# Altium schematic symbol library CPU.SchLib: 6 symbols
Pins are listed as number, name and electrical type; pins without a type are passive.

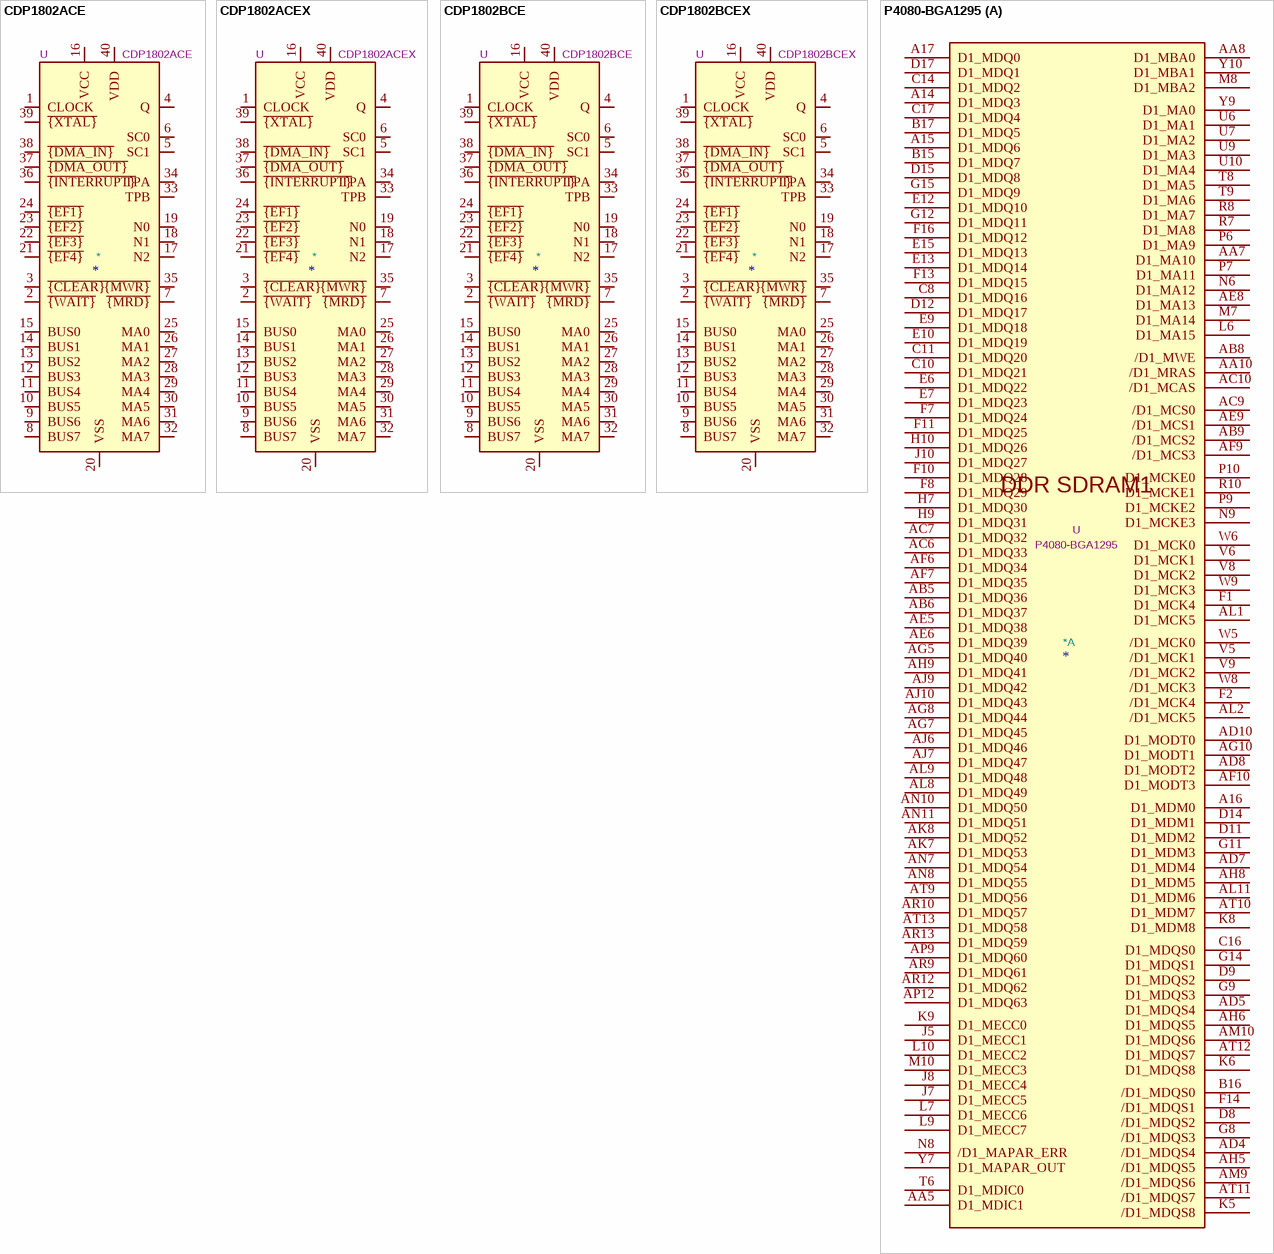
[diagram p0: symbols CDP1802ACE to P4080-BGA1295]

## CDP1802ACE
designator *  value CDP1802ACE  Reference: U
ki_keywords: CPU Processor; ki_description: 8-bit, General Purpose, 5V, 3.2 MHz, DIP-40; ki_fp_filters: DIP*W15.24mm*; Footprint: Package_DIP:DIP-40_W15.24mm; Datasheet: http://www.cosmacelf.com/publications/data-sheets/cdp1802.pdf
pins: 1 CLOCK, 2 ~{{WAIT}}, 3 ~{{CLEAR}}, 4 Q, 5 SC1, 6 SC0, 7 ~{{MRD}}, 8 BUS7, 9 BUS6, 10 BUS5, 11 BUS4, 12 BUS3, 13 BUS2, 14 BUS1, 15 BUS0, 16 VCC, 17 N2, 18 N1, 19 N0, 20 VSS, 21 ~{{EF4}}, 22 ~{{EF3}}, 23 ~{{EF2}}, 24 ~{{EF1}}, 25 MA0, 26 MA1, 27 MA2, 28 MA3, 29 MA4, 30 MA5, 31 MA6, 32 MA7, 33 TPB, 34 TPA, 35 ~{{MWR}}, 36 ~{{INTERRUPT}}, 37 ~{{DMA_OUT}}, 38 ~{{DMA_IN}}, 39 ~{{XTAL}}, 40 VDD

## CDP1802ACEX
designator *  value CDP1802ACEX  Reference: U
ki_keywords: CPU Processor; ki_description: 8-bit, General Purpose, 5V, 3.2 MHz, Burned-In, DIP-40; ki_fp_filters: DIP*W15.24mm*; Footprint: Package_DIP:DIP-40_W15.24mm; Datasheet: http://www.cosmacelf.com/publications/data-sheets/cdp1802.pdf
pins: 1 CLOCK, 2 ~{{WAIT}}, 3 ~{{CLEAR}}, 4 Q, 5 SC1, 6 SC0, 7 ~{{MRD}}, 8 BUS7, 9 BUS6, 10 BUS5, 11 BUS4, 12 BUS3, 13 BUS2, 14 BUS1, 15 BUS0, 16 VCC, 17 N2, 18 N1, 19 N0, 20 VSS, 21 ~{{EF4}}, 22 ~{{EF3}}, 23 ~{{EF2}}, 24 ~{{EF1}}, 25 MA0, 26 MA1, 27 MA2, 28 MA3, 29 MA4, 30 MA5, 31 MA6, 32 MA7, 33 TPB, 34 TPA, 35 ~{{MWR}}, 36 ~{{INTERRUPT}}, 37 ~{{DMA_OUT}}, 38 ~{{DMA_IN}}, 39 ~{{XTAL}}, 40 VDD

## CDP1802BCE
designator *  value CDP1802BCE  Reference: U
ki_keywords: CPU Processor; ki_description: 8-bit, General Purpose, 5V, 5 MHz, DIP-40; ki_fp_filters: DIP*W15.24mm*; Footprint: Package_DIP:DIP-40_W15.24mm; Datasheet: http://www.cosmacelf.com/publications/data-sheets/cdp1802.pdf
pins: 1 CLOCK, 2 ~{{WAIT}}, 3 ~{{CLEAR}}, 4 Q, 5 SC1, 6 SC0, 7 ~{{MRD}}, 8 BUS7, 9 BUS6, 10 BUS5, 11 BUS4, 12 BUS3, 13 BUS2, 14 BUS1, 15 BUS0, 16 VCC, 17 N2, 18 N1, 19 N0, 20 VSS, 21 ~{{EF4}}, 22 ~{{EF3}}, 23 ~{{EF2}}, 24 ~{{EF1}}, 25 MA0, 26 MA1, 27 MA2, 28 MA3, 29 MA4, 30 MA5, 31 MA6, 32 MA7, 33 TPB, 34 TPA, 35 ~{{MWR}}, 36 ~{{INTERRUPT}}, 37 ~{{DMA_OUT}}, 38 ~{{DMA_IN}}, 39 ~{{XTAL}}, 40 VDD

## CDP1802BCEX
designator *  value CDP1802BCEX  Reference: U
ki_keywords: CPU Processor; ki_description: 8-bit, General Purpose, 5V, 5 MHz, Burned-In, DIP-40; ki_fp_filters: DIP*W15.24mm*; Footprint: Package_DIP:DIP-40_W15.24mm; Datasheet: http://www.cosmacelf.com/publications/data-sheets/cdp1802.pdf
pins: 1 CLOCK, 2 ~{{WAIT}}, 3 ~{{CLEAR}}, 4 Q, 5 SC1, 6 SC0, 7 ~{{MRD}}, 8 BUS7, 9 BUS6, 10 BUS5, 11 BUS4, 12 BUS3, 13 BUS2, 14 BUS1, 15 BUS0, 16 VCC, 17 N2, 18 N1, 19 N0, 20 VSS, 21 ~{{EF4}}, 22 ~{{EF3}}, 23 ~{{EF2}}, 24 ~{{EF1}}, 25 MA0, 26 MA1, 27 MA2, 28 MA3, 29 MA4, 30 MA5, 31 MA6, 32 MA7, 33 TPB, 34 TPA, 35 ~{{MWR}}, 36 ~{{INTERRUPT}}, 37 ~{{DMA_OUT}}, 38 ~{{DMA_IN}}, 39 ~{{XTAL}}, 40 VDD

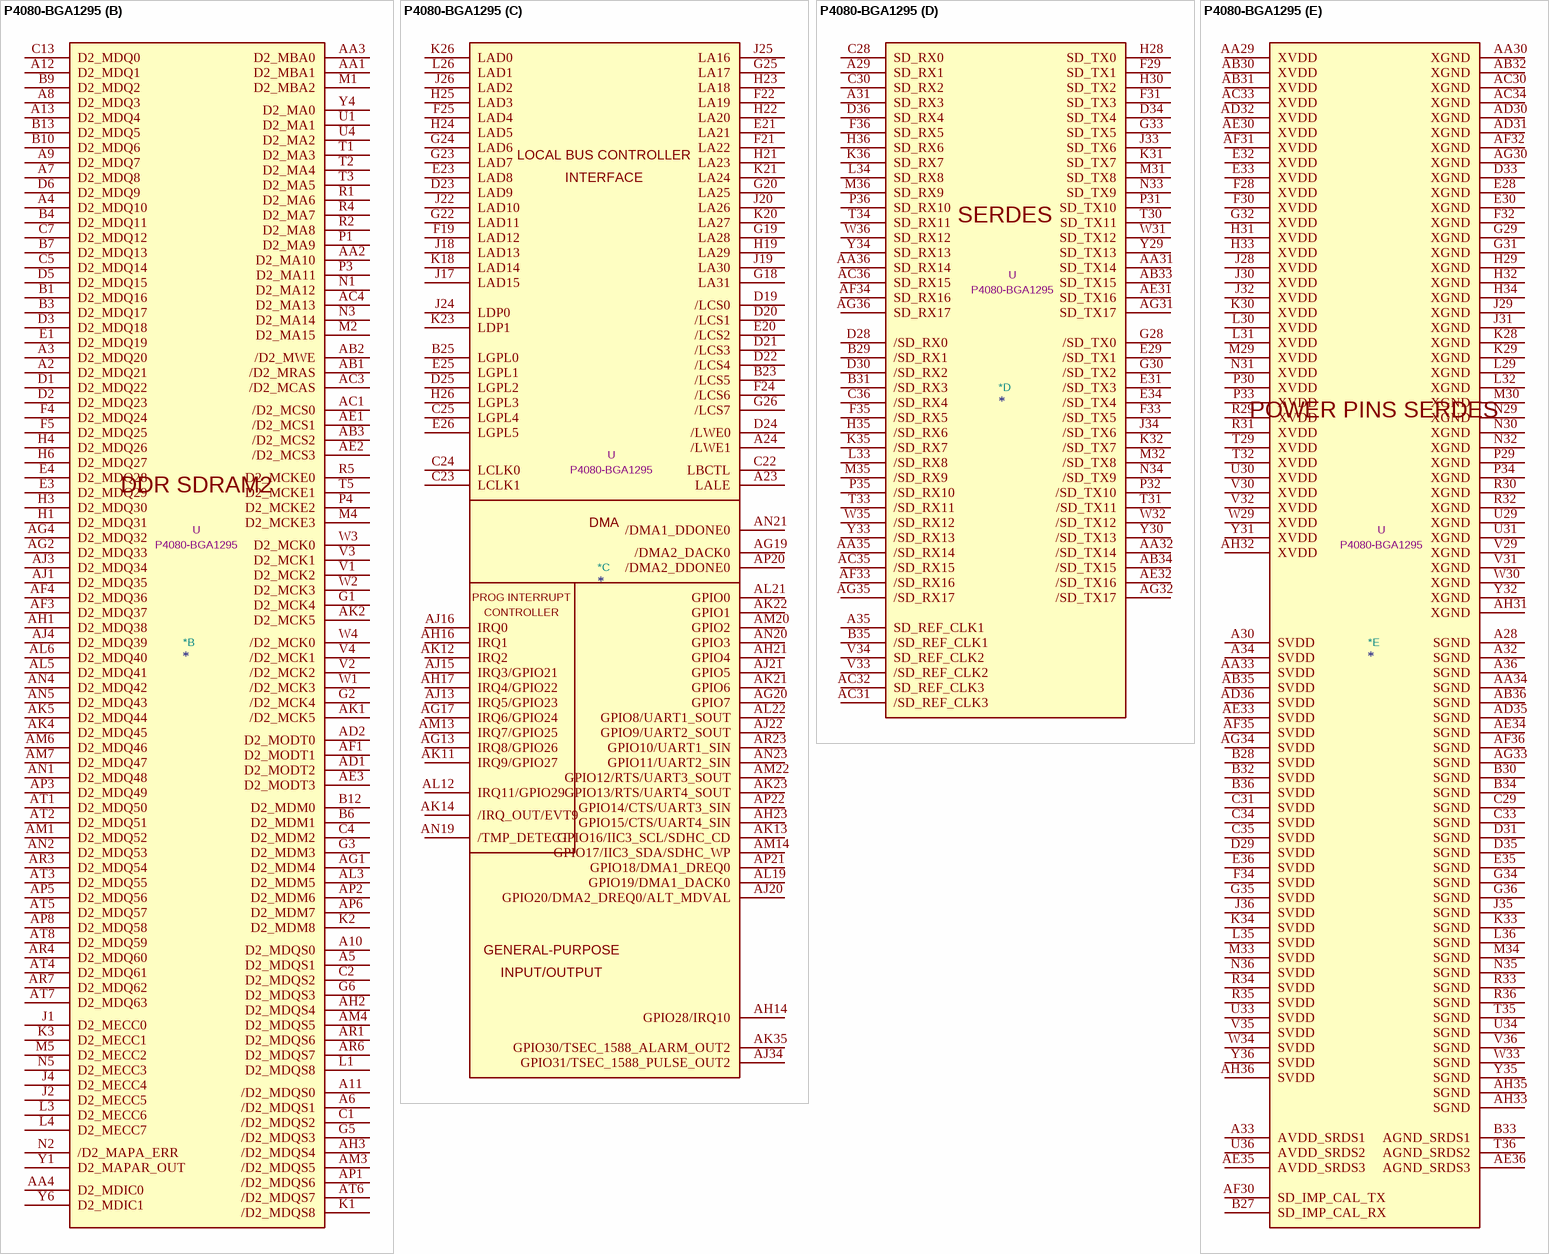
[diagram p1: symbol P4080-BGA1295]

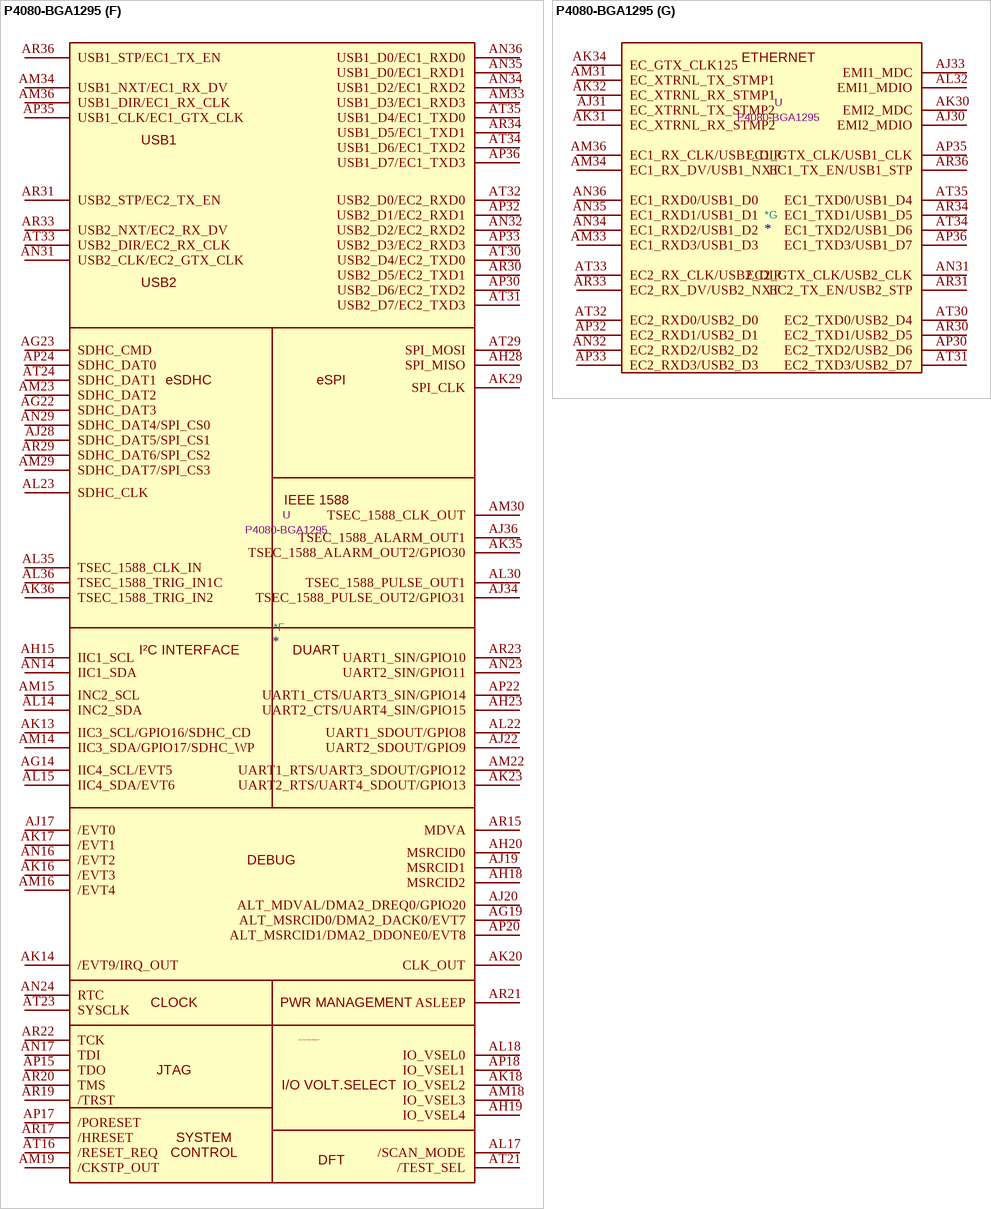
[diagram p2: symbol P4080-BGA1295]

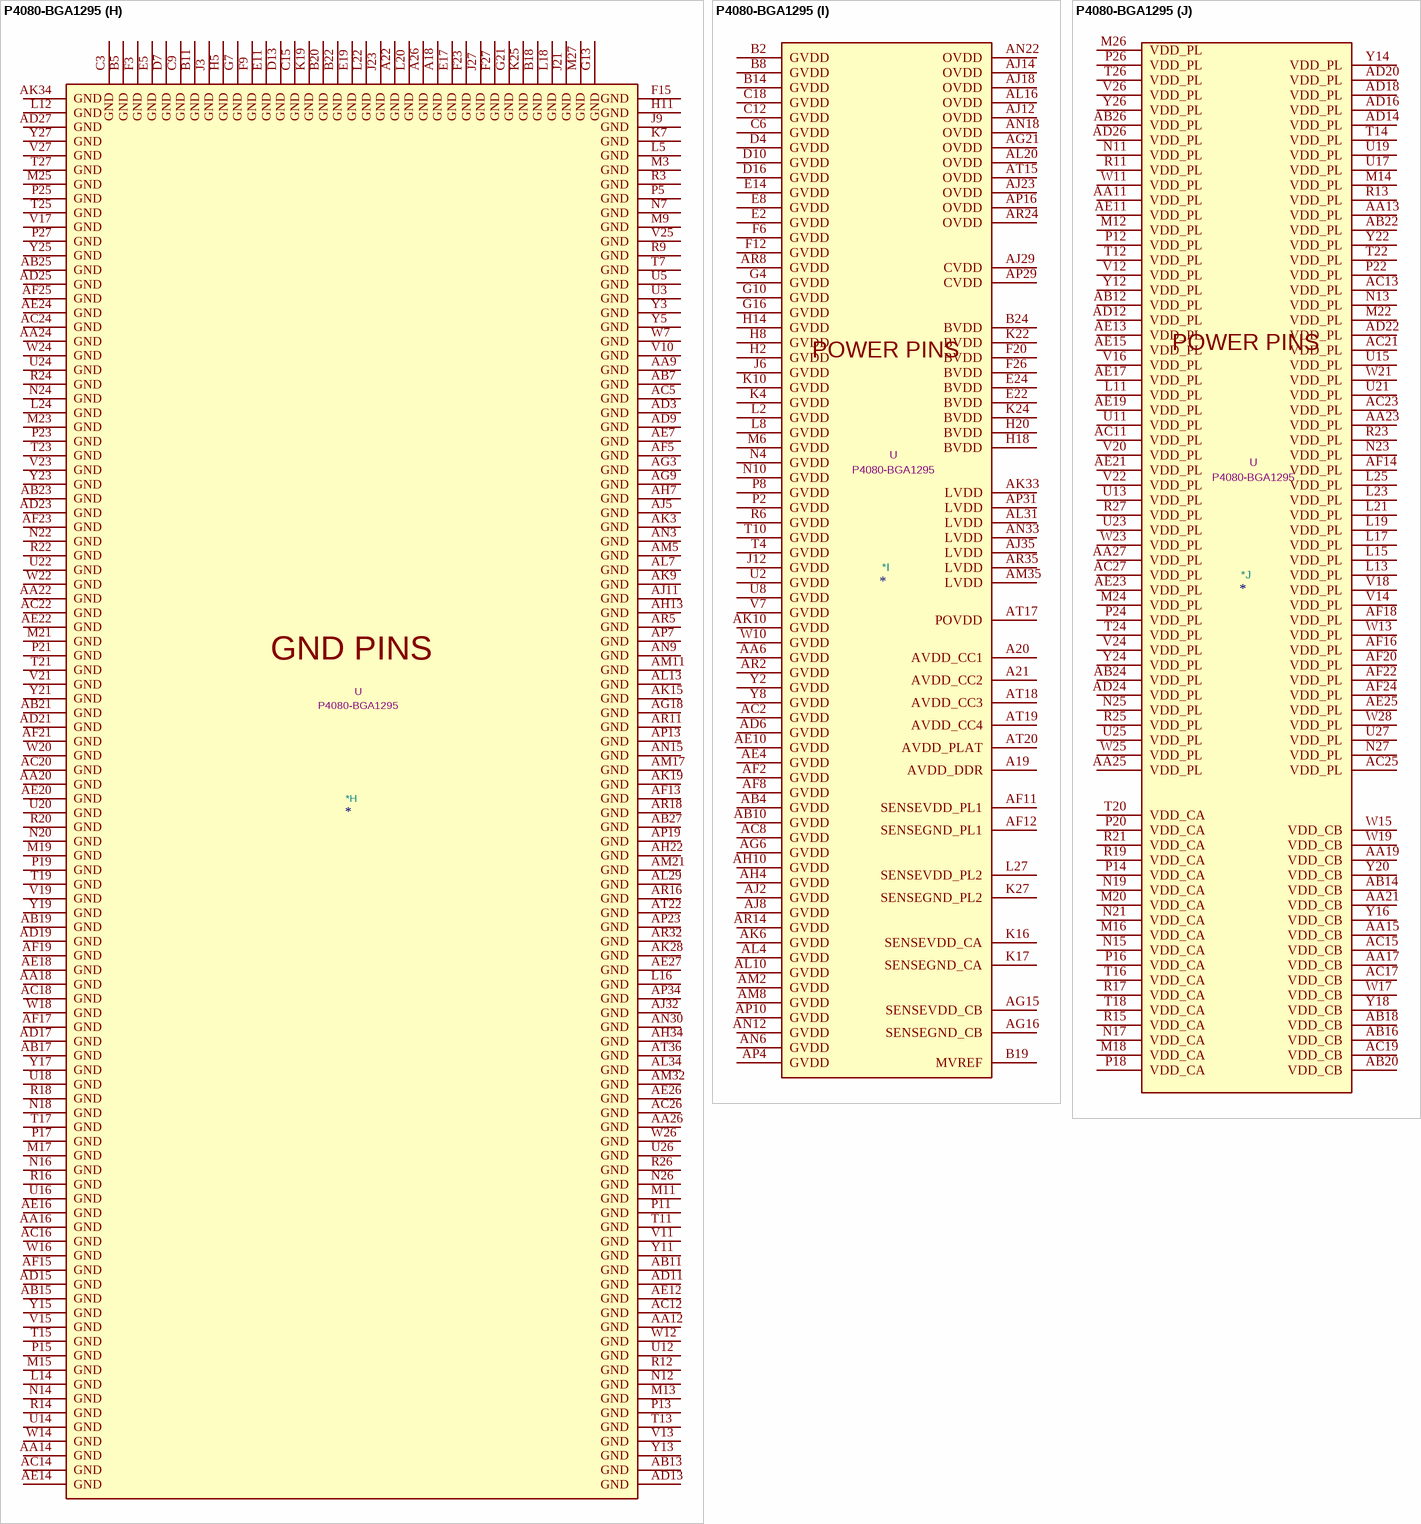
[diagram p3: symbol P4080-BGA1295]

## P4080-BGA1295
designator *  value P4080-BGA1295  Reference: U
ki_keywords: Communications Processor; ki_description: QorIQ P4080 Communications Processor, BGA-1295; Datasheet: https://www.nxp.com/jp/products/microcontrollers-and-processors/power-architecture-processors/qoriq-platforms/p-series/qoriq-p4080-p4040-p4081-multicore-communications-processors:P4080?&tab=Documentation_Tab&linkline=Data-Sheet
part A pins: A14 D1_MDQ3, A15 D1_MDQ6, A16 D1_MDM0, A17 D1_MDQ0, AA5 D1_MDIC1, AA7 D1_MA10, AA8 D1_MBA0, AA10 /D1_MRAS, AB5 D1_MDQ36, AB6 D1_MDQ37, AB8 /D1_MWE, AB9 /D1_MCS2, AC6 D1_MDQ33, AC7 D1_MDQ32, AC9 /D1_MCS0, AC10 /D1_MCAS, AD4 /D1_MDQS4, AD5 D1_MDQS4, AD7 D1_MDM4, AD8 D1_MODT2, AD10 D1_MODT0, AE5 D1_MDQ38, AE6 D1_MDQ39, AE8 D1_MA13, AE9 /D1_MCS1, AF6 D1_MDQ34, AF7 D1_MDQ35, AF9 /D1_MCS3, AF10 D1_MODT3, AG5 D1_MDQ40, AG7 D1_MDQ45, AG8 D1_MDQ44, AG10 D1_MODT1, AH5 /D1_MDQS5, AH6 D1_MDQS5, AH8 D1_MDM5, AH9 D1_MDQ41, AJ6 D1_MDQ46, AJ7 D1_MDQ47, AJ9 D1_MDQ42, AJ10 D1_MDQ43, AK7 D1_MDQ53, AK8 D1_MDQ52, AL1 D1_MCK5, AL2 /D1_MCK5, AL8 D1_MDQ49, AL9 D1_MDQ48, AL11 D1_MDM6, AM9 /D1_MDQS6, AM10 D1_MDQS6, AN7 D1_MDQ54, AN8 D1_MDQ55, AN10 D1_MDQ50, AN11 D1_MDQ51, AP9 D1_MDQ60, AP12 D1_MDQ63, AR9 D1_MDQ61, AR10 D1_MDQ57, AR12 D1_MDQ62, AR13 D1_MDQ59, AT9 D1_MDQ56, AT10 D1_MDM7, AT11 /D1_MDQS7, AT12 D1_MDQS7, AT13 D1_MDQ58, B15 D1_MDQ7, B16 /D1_MDQS0, B17 D1_MDQ5, C8 D1_MDQ16, C10 D1_MDQ21, C11 D1_MDQ20, C14 D1_MDQ2, C16 D1_MDQS0, C17 D1_MDQ4, D8 /D1_MDQS2, D9 D1_MDQS2, D11 D1_MDM2, D12 D1_MDQ17, D14 D1_MDM1, D15 D1_MDQ8, D17 D1_MDQ1, E6 D1_MDQ22, E7 D1_MDQ23, E9 D1_MDQ18, E10 D1_MDQ19, E12 D1_MDQ10, E13 D1_MDQ14, E15 D1_MDQ13, F1 D1_MCK4, F2 /D1_MCK4, F7 D1_MDQ24, F8 D1_MDQ29, F10 D1_MDQ28, F11 D1_MDQ25, F13 D1_MDQ15, F14 /D1_MDQS1, F16 D1_MDQ12, G8 /D1_MDQS3, G9 D1_MDQS3, G11 D1_MDM3, G12 D1_MDQ11, G14 D1_MDQS1, G15 D1_MDQ9, H7 D1_MDQ30, H9 D1_MDQ31, H10 D1_MDQ26, J5 D1_MECC1, J7 D1_MECC5, J8 D1_MECC4, J10 D1_MDQ27, K5 /D1_MDQS8, K6 D1_MDQS8, K8 D1_MDM8, K9 D1_MECC0, L6 D1_MA15, L7 D1_MECC6, L9 D1_MECC7, L10 D1_MECC2, M7 D1_MA14, M8 D1_MBA2, M10 D1_MECC3, N6 D1_MA12, N8 /D1_MAPAR_ERR, N9 D1_MCKE3, P6 D1_MA9, P7 D1_MA11, P9 D1_MCKE2, P10 D1_MCKE0, R7 D1_MA8, R8 D1_MA7, R10 D1_MCKE1, T6 D1_MDIC0, T8 D1_MA5, T9 D1_MA6, U6 D1_MA1, U7 D1_MA2, U9 D1_MA3, U10 D1_MA4, V5 /D1_MCK1, V6 D1_MCK1, V8 D1_MCK2, V9 /D1_MCK2, W5 /D1_MCK0, W6 D1_MCK0, W8 /D1_MCK3, W9 D1_MCK3, Y7 D1_MAPAR_OUT, Y9 D1_MA0, Y10 D1_MBA1
part B pins: A2 D2_MDQ21, A3 D2_MDQ20, A4 D2_MDQ10, A5 D2_MDQS1, A6 /D2_MDQS1, A7 D2_MDQ8, A8 D2_MDQ3, A9 D2_MDQ7, A10 D2_MDQS0, A11 /D2_MDQS0, A12 D2_MDQ1, A13 D2_MDQ4, AA1 D2_MBA1, AA2 D2_MA10, AA3 D2_MBA0, AA4 D2_MDIC0, AB1 /D2_MRAS, AB2 /D2_MWE, AB3 /D2_MCS2, AC1 /D2_MCS0, AC3 /D2_MCAS, AC4 D2_MA13, AD1 D2_MODT2, AD2 D2_MODT0, AE1 /D2_MCS1, AE2 /D2_MCS3, AE3 D2_MODT3, AF1 D2_MODT1, AF3 D2_MDQ37, AF4 D2_MDQ36, AG1 D2_MDM4, AG2 D2_MDQ33, AG4 D2_MDQ32, AH1 D2_MDQ38, AH2 D2_MDQS4, AH3 /D2_MDQS4, AJ1 D2_MDQ35, AJ3 D2_MDQ34, AJ4 D2_MDQ39, AK1 /D2_MCK5, AK2 D2_MCK5, AK4 D2_MDQ45, AK5 D2_MDQ44, AL3 D2_MDM5, AL5 D2_MDQ41, AL6 D2_MDQ40, AM1 D2_MDQ52, AM3 /D2_MDQS5, AM4 D2_MDQS5, AM6 D2_MDQ46, AM7 D2_MDQ47, AN1 D2_MDQ48, AN2 D2_MDQ53, AN4 D2_MDQ42, AN5 D2_MDQ43, AP1 /D2_MDQS6, AP2 D2_MDM6, AP3 D2_MDQ49, AP5 D2_MDQ56, AP6 D2_MDM7, AP8 D2_MDQ58, AR1 D2_MDQS6, AR3 D2_MDQ54, AR4 D2_MDQ60, AR6 D2_MDQS7, AR7 D2_MDQ62, AT1 D2_MDQ50, AT2 D2_MDQ51, AT3 D2_MDQ55, AT4 D2_MDQ61, AT5 D2_MDQ57, AT6 /D2_MDQS7, AT7 D2_MDQ63, AT8 D2_MDQ59, B1 D2_MDQ16, B3 D2_MDQ17, B4 D2_MDQ11, B6 D2_MDM1, B7 D2_MDQ13, B9 D2_MDQ2, B10 D2_MDQ6, B12 D2_MDM0, B13 D2_MDQ5, C1 /D2_MDQS2, C2 D2_MDQS2, C4 D2_MDM2, C5 D2_MDQ14, C7 D2_MDQ12, C13 D2_MDQ0, D1 D2_MDQ22, D2 D2_MDQ23, D3 D2_MDQ18, D5 D2_MDQ15, D6 D2_MDQ9, E1 D2_MDQ19, E3 D2_MDQ29, E4 D2_MDQ28, F4 D2_MDQ24, F5 D2_MDQ25, G1 D2_MCK4, G2 /D2_MCK4, G3 D2_MDM3, G5 /D2_MDQS3, G6 D2_MDQS3, H1 D2_MDQ31, H3 D2_MDQ30, H4 D2_MDQ26, H6 D2_MDQ27, J1 D2_MECC0, J2 D2_MECC5, J4 D2_MECC4, K1 /D2_MDQS8, K2 D2_MDM8, K3 D2_MECC1, L1 D2_MDQS8, L3 D2_MECC6, L4 D2_MECC7, M1 D2_MBA2, M2 D2_MA15, M4 D2_MCKE3, M5 D2_MECC2, N1 D2_MA12, N2 /D2_MAPA_ERR, N3 D2_MA14, N5 D2_MECC3, P1 D2_MA9, P3 D2_MA11, P4 D2_MCKE2, R1 D2_MA6, R2 D2_MA8, R4 D2_MA7, R5 D2_MCKE0, T1 D2_MA3, T2 D2_MA4, T3 D2_MA5, T5 D2_MCKE1, U1 D2_MA1, U4 D2_MA2, V1 D2_MCK2, V2 /D2_MCK2, V3 D2_MCK1, V4 /D2_MCK1, W1 /D2_MCK3, W2 D2_MCK3, W3 D2_MCK0, W4 /D2_MCK0, Y1 D2_MAPAR_OUT, Y4 D2_MA0, Y6 D2_MDIC1
part C pins: A23 LALE, A24 /LWE1, AG13 IRQ8/GPIO26, AG17 IRQ6/GPIO24, AG19 /DMA2_DACK0, AG20 GPIO7, AH14 GPIO28/IRQ10, AH16 IRQ1, AH17 IRQ4/GPIO22, AH21 GPIO4, AH23 GPIO15/CTS/UART4_SIN, AJ13 IRQ5/GPIO23, AJ15 IRQ3/GPIO21, AJ16 IRQ0, AJ20 GPIO20/DMA2_DREQ0/ALT_MDVAL, AJ21 GPIO5, AJ22 GPIO9/UART2_SOUT, AJ34 GPIO31/TSEC_1588_PULSE_OUT2, AK11 IRQ9/GPIO27, AK12 IRQ2, AK13 GPIO16/IIC3_SCL/SDHC_CD, AK14 /IRQ_OUT/EVT9, AK21 GPIO6, AK22 GPIO1, AK23 GPIO13/RTS/UART4_SOUT, AK35 GPIO30/TSEC_1588_ALARM_OUT2, AL12 IRQ11/GPIO29, AL19 GPIO19/DMA1_DACK0, AL21 GPIO0, AL22 GPIO8/UART1_SOUT, AM13 IRQ7/GPIO25, AM14 GPIO17/IIC3_SDA/SDHC_WP, AM20 GPIO2, AM22 GPIO12/RTS/UART3_SOUT, AN19 /TMP_DETECT, AN20 GPIO3, AN21 /DMA1_DDONE0, AN23 GPIO11/UART2_SIN, AP20 /DMA2_DDONE0, AP21 GPIO18/DMA1_DREQ0, AP22 GPIO14/CTS/UART3_SIN, AR23 GPIO10/UART1_SIN, B23 /LCS5, B25 LGPL0, C22 LBCTL, C23 LCLK1, C24 LCLK0, C25 LGPL4, D19 /LCS0, D20 /LCS1, D21 /LCS3, D22 /LCS4, D23 LAD9, D24 /LWE0, D25 LGPL2, E20 /LCS2, E21 LA21, E23 LAD8, E25 LGPL1, E26 LGPL5, F19 LAD12, F21 LA22, F22 LA19, F24 /LCS6, F25 LAD4, G18 LA31, G19 LA28, G20 LA25, G22 LAD11, G23 LAD7, G24 LAD6, G25 LA17, G26 /LCS7, H19 LA29, H21 LA23, H22 LA20, H23 LA18, H24 LAD5, H25 LAD3, H26 LGPL3, J17 LAD15, J18 LAD13, J19 LA30, J20 LA26, J22 LAD10, J24 LDP0, J25 LA16, J26 LAD2, K18 LAD14, K20 LA27, K21 LA24, K23 LDP1, K26 LAD0, L26 LAD1
part D pins: A29 SD_RX1, A31 SD_RX3, A35 SD_REF_CLK1, AA31 SD_TX14, AA32 /SD_TX14, AA35 /SD_RX14, AA36 SD_RX14, AB33 SD_TX15, AB34 /SD_TX15, AC31 /SD_REF_CLK3, AC32 SD_REF_CLK3, AC35 /SD_RX15, AC36 SD_RX15, AE31 SD_TX16, AE32 /SD_TX16, AF33 /SD_RX16, AF34 SD_RX16, AG31 SD_TX17, AG32 /SD_TX17, AG35 /SD_RX17, AG36 SD_RX17, B29 /SD_RX1, B31 /SD_RX3, B35 /SD_REF_CLK1, C28 SD_RX0, C30 SD_RX2, C36 /SD_RX4, D28 /SD_RX0, D30 /SD_RX2, D34 SD_TX4, D36 SD_RX4, E29 /SD_TX1, E31 /SD_TX3, E34 /SD_TX4, F29 SD_TX1, F31 SD_TX3, F33 /SD_TX5, F35 /SD_RX5, F36 SD_RX5, G28 /SD_TX0, G30 /SD_TX2, G33 SD_TX5, H28 SD_TX0, H30 SD_TX2, H35 /SD_RX6, H36 SD_RX6, J33 SD_TX6, J34 /SD_TX6, K31 SD_TX7, K32 /SD_TX7, K35 /SD_RX7, K36 SD_RX7, L33 /SD_RX8, L34 SD_RX8, M31 SD_TX8, M32 /SD_TX8, M35 /SD_RX9, M36 SD_RX9, N33 SD_TX9, N34 /SD_TX9, P31 SD_TX10, P32 /SD_TX10, P35 /SD_RX10, P36 SD_RX10, T30 SD_TX11, T31 /SD_TX11, T33 /SD_RX11, T34 SD_RX11, V33 /SD_REF_CLK2, V34 SD_REF_CLK2, W31 SD_TX12, W32 /SD_TX12, W35 /SD_RX12, W36 SD_RX12, Y29 SD_TX13, Y30 /SD_TX13, Y33 /SD_RX13, Y34 SD_RX13
part E pins: A28 SGND, A30 SVDD, A32 SGND, A33 AVDD_SRDS1, A34 SVDD, A36 SGND, AA29 XVDD, AA30 XGND, AA33 SVDD, AA34 SGND, AB30 XVDD, AB31 XVDD, AB32 XGND, AB35 SVDD, AB36 SGND, AC30 XGND, AC33 XVDD, AC34 XGND, AD30 XGND, AD31 XGND, AD32 XVDD, AD35 SGND, AD36 SVDD, AE30 XVDD, AE33 SVDD, AE34 SGND, AE35 AVDD_SRDS3, AE36 AGND_SRDS3, AF30 SD_IMP_CAL_TX, AF31 XVDD, AF32 XGND, AF35 SVDD, AF36 SGND, AG30 XGND, AG33 SGND, AG34 SVDD, AH31 XGND, AH32 XVDD, AH33 SGND, AH35 SGND, AH36 SVDD, B27 SD_IMP_CAL_RX, B28 SVDD, B30 SGND, B32 SVDD, B33 AGND_SRDS1, B34 SGND, B36 SVDD, C29 SGND, C31 SVDD, C33 SGND, C34 SVDD, C35 SVDD, D29 SVDD, D31 SGND, D33 XGND, D35 SGND, E28 XGND, E30 XGND, E32 XVDD, E33 XVDD, E35 SGND, E36 SVDD, F28 XVDD, F30 XVDD, F32 XGND, F34 SVDD, G29 XGND, G31 XGND, G32 XVDD, G34 SGND, G35 SVDD, G36 SGND, H29 XGND, H31 XVDD, H32 XGND, H33 XVDD, H34 XGND, J28 XVDD, J29 XGND, J30 XVDD, J31 XGND, J32 XVDD, J35 SGND, J36 SVDD, K28 XGND, K29 XGND, K30 XVDD, K33 SGND, K34 SVDD, L29 XGND, L30 XVDD, L31 XVDD, L32 XGND, L35 SVDD, L36 SGND, M29 XVDD, M30 XGND, M33 SVDD, M34 SGND, N29 XGND, N30 XGND, N31 XVDD, N32 XGND, N35 SGND, N36 SVDD, P29 XGND, P30 XVDD, P33 XVDD, P34 XGND, R29 XVDD, R30 XGND, R31 XVDD, R32 XGND, R33 SGND, R34 SVDD, R35 SVDD, R36 SGND, T29 XVDD, T32 XVDD, T35 SGND, T36 AGND_SRDS2, U29 XGND, U30 XVDD, U31 XGND, U33 SVDD, U34 SGND, U36 AVDD_SRDS2, V29 XGND, V30 XVDD, V31 XGND, V32 XVDD, V35 SVDD, V36 SGND, W29 XVDD, W30 XGND, W33 SGND, W34 SVDD, Y31 XVDD, Y32 XGND, Y35 SGND, Y36 SVDD
part F pins: AG14 IIC4_SCL/EVT5, AG19 ALT_MSRCID0/DMA2_DACK0/EVT7, AG22 SDHC_DAT3, AG23 SDHC_CMD, AH15 IIC1_SCL, AH18 MSRCID2, AH19 IO_VSEL4, AH20 MSRCID0, AH23 UART2_CTS/UART4_SIN/GPIO15, AH28 SPI_MISO, AJ17 /EVT0, AJ19 MSRCID1, AJ20 ALT_MDVAL/DMA2_DREQ0/GPIO20, AJ22 UART2_SDOUT/GPIO9, AJ28 SDHC_DAT5/SPI_CS1, AJ34 TSEC_1588_PULSE_OUT2/GPIO31, AJ36 TSEC_1588_ALARM_OUT1, AK13 IIC3_SCL/GPIO16/SDHC_CD, AK14 /EVT9/IRQ_OUT, AK16 /EVT3, AK17 /EVT1, AK18 IO_VSEL2, AK20 CLK_OUT, AK23 UART2_RTS/UART4_SDOUT/GPIO13, AK29 SPI_CLK, AK35 TSEC_1588_ALARM_OUT2/GPIO30, AK36 TSEC_1588_TRIG_IN2, AL14 INC2_SDA, AL15 IIC4_SDA/EVT6, AL17 /SCAN_MODE, AL18 IO_VSEL0, AL22 UART1_SDOUT/GPIO8, AL23 SDHC_CLK, AL30 TSEC_1588_PULSE_OUT1, AL35 TSEC_1588_CLK_IN, AL36 TSEC_1588_TRIG_IN1C, AM14 IIC3_SDA/GPIO17/SDHC_WP, AM15 INC2_SCL, AM16 /EVT4, AM18 IO_VSEL3, AM19 /CKSTP_OUT, AM22 UART1_RTS/UART3_SDOUT/GPIO12, AM23 SDHC_DAT2, AM29 SDHC_DAT7/SPI_CS3, AM30 TSEC_1588_CLK_OUT, AM33 USB1_D3/EC1_RXD3, AM34 USB1_NXT/EC1_RX_DV, AM36 USB1_DIR/EC1_RX_CLK, AN14 IIC1_SDA, AN16 /EVT2, AN17 TDI, AN23 UART2_SIN/GPIO11, AN24 RTC, AN29 SDHC_DAT4/SPI_CS0, AN31 USB2_CLK/EC2_GTX_CLK, AN32 USB2_D2/EC2_RXD2, AN34 USB1_D2/EC1_RXD2, AN35 USB1_D0/EC1_RXD1, AN36 USB1_D0/EC1_RXD0, AP15 TDO, AP17 /PORESET, AP18 IO_VSEL1, AP20 ALT_MSRCID1/DMA2_DDONE0/EVT8, AP22 UART1_CTS/UART3_SIN/GPIO14, AP24 SDHC_DAT0, AP30 USB2_D6/EC2_TXD2, AP32 USB2_D1/EC2_RXD1, AP33 USB2_D3/EC2_RXD3, AP35 USB1_CLK/EC1_GTX_CLK, AP36 USB1_D7/EC1_TXD3, AR15 MDVA, AR17 /HRESET, AR19 /TRST, AR20 TMS, AR21 ASLEEP, AR22 TCK, AR23 UART1_SIN/GPIO10, AR29 SDHC_DAT6/SPI_CS2, AR30 USB2_D5/EC2_TXD1, AR31 USB2_STP/EC2_TX_EN, AR33 USB2_NXT/EC2_RX_DV, AR34 USB1_D5/EC1_TXD1, AR36 USB1_STP/EC1_TX_EN, AT16 /RESET_REQ, AT21 /TEST_SEL, AT23 SYSCLK, AT24 SDHC_DAT1, AT29 SPI_MOSI, AT30 USB2_D4/EC2_TXD0, AT31 USB2_D7/EC2_TXD3, AT32 USB2_D0/EC2_RXD0, AT33 USB2_DIR/EC2_RX_CLK, AT34 USB1_D6/EC1_TXD2, AT35 USB1_D4/EC1_TXD0
part G pins: AJ30 EMI2_MDIO, AJ31 EC_XTRNL_TX_STMP2, AJ33 EMI1_MDC, AK30 EMI2_MDC, AK31 EC_XTRNL_RX_STMP2, AK32 EC_XTRNL_RX_STMP1, AK34 EC_GTX_CLK125, AL32 EMI1_MDIO, AM31 EC_XTRNL_TX_STMP1, AM33 EC1_RXD3/USB1_D3, AM34 EC1_RX_DV/USB1_NXT, AM36 EC1_RX_CLK/USB1_DIR, AN31 EC2_GTX_CLK/USB2_CLK, AN32 EC2_RXD2/USB2_D2, AN34 EC1_RXD2/USB1_D2, AN35 EC1_RXD1/USB1_D1, AN36 EC1_RXD0/USB1_D0, AP30 EC2_TXD2/USB2_D6, AP32 EC2_RXD1/USB2_D1, AP33 EC2_RXD3/USB2_D3, AP35 EC1_GTX_CLK/USB1_CLK, AP36 EC1_TXD3/USB1_D7, AR30 EC2_TXD1/USB2_D5, AR31 EC2_TX_EN/USB2_STP, AR33 EC2_RX_DV/USB2_NXT, AR34 EC1_TXD1/USB1_D5, AR36 EC1_TX_EN/USB1_STP, AT30 EC2_TXD0/USB2_D4, AT31 EC2_TXD3/USB2_D7, AT32 EC2_RXD0/USB2_D0, AT33 EC2_RX_CLK/USB2_DIR, AT34 EC1_TXD2/USB1_D6, AT35 EC1_TXD0/USB1_D4
part H pins: A18 GND, A22 GND, A26 GND, AA9 GND, AA12 GND, AA14 GND, AA16 GND, AA18 GND, AA20 GND, AA22 GND, AA24 GND, AA26 GND, AB7 GND, AB11 GND, AB13 GND, AB15 GND, AB17 GND, AB19 GND, AB21 GND, AB23 GND, AB25 GND, AB27 GND, AC5 GND, AC12 GND, AC14 GND, AC16 GND, AC18 GND, AC20 GND, AC22 GND, AC24 GND, AC26 GND, AD3 GND, AD9 GND, AD11 GND, AD13 GND, AD15 GND, AD17 GND, AD19 GND, AD21 GND, AD23 GND, AD25 GND, AD27 GND, AE7 GND, AE12 GND, AE14 GND, AE16 GND, AE18 GND, AE20 GND, AE22 GND, AE24 GND, AE26 GND, AE27 GND, AF5 GND, AF13 GND, AF15 GND, AF17 GND, AF19 GND, AF21 GND, AF23 GND, AF25 GND, AG3 GND, AG9 GND, AG18 GND, AH7 GND, AH13 GND, AH22 GND, AH34 GND, AJ5 GND, AJ11 GND, AJ32 GND, AK3 GND, AK9 GND, AK15 GND, AK19 GND, AK28 GND, AK34 GND, AL7 GND, AL13 GND, AL29 GND, AL34 GND, AM5 GND, AM11 GND, AM17 GND, AM21 GND, AM32 GND, AN3 GND, AN9 GND, AN15 GND, AN30 GND, AP7 GND, AP13 GND, AP19 GND, AP23 GND, AP34 GND, AR5 GND, AR11 GND, AR16 GND, AR18 GND, AR32 GND, AT22 GND, AT36 GND, B5 GND, B11 GND, B18 GND, B20 GND, B22 GND, C3 GND, C9 GND, C15 GND, D7 GND, D13 GND, E5 GND, E11 GND, E17 GND, E19 GND, F3 GND, F9 GND, F15 GND, F23 GND, F27 GND, G7 GND, G13 GND, G21 GND, H5 GND, H11 GND, J3 GND, J9 GND, J21 GND, J23 GND, J27 GND, K7 GND, K19 GND, K25 GND, L5 GND, L12 GND, L14 GND, L16 GND, L18 GND, L20 GND, L22 GND, L24 GND, M3 GND, M9 GND, M11 GND, M13 GND, M15 GND, M17 GND, M19 GND, M21 GND, M23 GND, M25 GND, M27 GND, N7 GND, N12 GND, N14 GND, N16 GND, N18 GND, N20 GND, N22 GND, N24 GND, N26 GND, P5 GND, P11 GND, P13 GND, P15 GND, P17 GND, P19 GND, P21 GND, P23 GND, P25 GND, P27 GND, R3 GND, R9 GND, R12 GND, R14 GND, R16 GND, R18 GND, R20 GND, R22 GND, R24 GND, R26 GND, T7 GND, T11 GND, T13 GND, T15 GND, T17 GND, T19 GND, T21 GND, T23 GND, T25 GND, T27 GND, U3 GND, U5 GND, U12 GND, U14 GND, U16 GND, U18 GND, U20 GND, U22 GND, U24 GND, U26 GND, V10 GND, V11 GND, V13 GND, V15 GND, V17 GND, V19 GND, V21 GND, V23 GND, V25 GND, V27 GND, W7 GND, W12 GND, W14 GND, W16 GND, W18 GND, W20 GND, W22 GND, W24 GND, W26 GND, Y3 GND, Y5 GND, Y11 GND, Y13 GND, Y15 GND, Y17 GND, Y19 GND, Y21 GND, Y23 GND, Y25 GND, Y27 GND
part I pins: A19 AVDD_DDR, A20 AVDD_CC1, A21 AVDD_CC2, AA6 GVDD, AB4 GVDD, AB10 GVDD, AC2 GVDD, AC8 GVDD, AD6 GVDD, AE4 GVDD, AE10 GVDD, AF2 GVDD, AF8 GVDD, AF11 SENSEVDD_PL1, AF12 SENSEGND_PL1, AG6 GVDD, AG15 SENSEVDD_CB, AG16 SENSEGND_CB, AG21 OVDD, AH4 GVDD, AH10 GVDD, AJ2 GVDD, AJ8 GVDD, AJ12 OVDD, AJ14 OVDD, AJ18 OVDD, AJ23 OVDD, AJ29 CVDD, AJ35 LVDD, AK6 GVDD, AK10 GVDD, AK33 LVDD, AL4 GVDD, AL10 GVDD, AL16 OVDD, AL20 OVDD, AL31 LVDD, AM2 GVDD, AM8 GVDD, AM35 LVDD, AN6 GVDD, AN12 GVDD, AN18 OVDD, AN22 OVDD, AN33 LVDD, AP4 GVDD, AP10 GVDD, AP16 OVDD, AP29 CVDD, AP31 LVDD, AR2 GVDD, AR8 GVDD, AR14 GVDD, AR24 OVDD, AR35 LVDD, AT15 OVDD, AT17 POVDD, AT18 AVDD_CC3, AT19 AVDD_CC4, AT20 AVDD_PLAT, B2 GVDD, B8 GVDD, B14 GVDD, B19 MVREF, B24 BVDD, C6 GVDD, C12 GVDD, C18 GVDD, D4 GVDD, D10 GVDD, D16 GVDD, E2 GVDD, E8 GVDD, E14 GVDD, E22 BVDD, E24 BVDD, F6 GVDD, F12 GVDD, F20 BVDD, F26 BVDD, G4 GVDD, G10 GVDD, G16 GVDD, H2 GVDD, H8 GVDD, H14 GVDD, H18 BVDD, H20 BVDD, J6 GVDD, J12 GVDD, K4 GVDD, K10 GVDD, K16 SENSEVDD_CA, K17 SENSEGND_CA, K22 BVDD, K24 BVDD, K27 SENSEGND_PL2, L2 GVDD, L8 GVDD, L27 SENSEVDD_PL2, M6 GVDD, N4 GVDD, N10 GVDD, P2 GVDD, P8 GVDD, R6 GVDD, T4 GVDD, T10 GVDD, U2 GVDD, U8 GVDD, V7 GVDD, W10 GVDD, Y2 GVDD, Y8 GVDD
part J pins: AA11 VDD_PL, AA13 VDD_PL, AA15 VDD_CB, AA17 VDD_CB, AA19 VDD_CB, AA21 VDD_CB, AA23 VDD_PL, AA25 VDD_PL, AA27 VDD_PL, AB12 VDD_PL, AB14 VDD_CB, AB16 VDD_CB, AB18 VDD_CB, AB20 VDD_CB, AB22 VDD_PL, AB24 VDD_PL, AB26 VDD_PL, AC11 VDD_PL, AC13 VDD_PL, AC15 VDD_CB, AC17 VDD_CB, AC19 VDD_CB, AC21 VDD_PL, AC23 VDD_PL, AC25 VDD_PL, AC27 VDD_PL, AD12 VDD_PL, AD14 VDD_PL, AD16 VDD_PL, AD18 VDD_PL, AD20 VDD_PL, AD22 VDD_PL, AD24 VDD_PL, AD26 VDD_PL, AE11 VDD_PL, AE13 VDD_PL, AE15 VDD_PL, AE17 VDD_PL, AE19 VDD_PL, AE21 VDD_PL, AE23 VDD_PL, AE25 VDD_PL, AF14 VDD_PL, AF16 VDD_PL, AF18 VDD_PL, AF20 VDD_PL, AF22 VDD_PL, AF24 VDD_PL, L11 VDD_PL, L13 VDD_PL, L15 VDD_PL, L17 VDD_PL, L19 VDD_PL, L21 VDD_PL, L23 VDD_PL, L25 VDD_PL, M12 VDD_PL, M14 VDD_PL, M16 VDD_CA, M18 VDD_CA, M20 VDD_CA, M22 VDD_PL, M24 VDD_PL, M26 VDD_PL, N11 VDD_PL, N13 VDD_PL, N15 VDD_CA, N17 VDD_CA, N19 VDD_CA, N21 VDD_CA, N23 VDD_PL, N25 VDD_PL, N27 VDD_PL, P12 VDD_PL, P14 VDD_CA, P16 VDD_CA, P18 VDD_CA, P20 VDD_CA, P22 VDD_PL, P24 VDD_PL, P26 VDD_PL, R11 VDD_PL, R13 VDD_PL, R15 VDD_CA, R17 VDD_CA, R19 VDD_CA, R21 VDD_CA, R23 VDD_PL, R25 VDD_PL, R27 VDD_PL, T12 VDD_PL, T14 VDD_PL, T16 VDD_CA, T18 VDD_CA, T20 VDD_CA, T22 VDD_PL, T24 VDD_PL, T26 VDD_PL, U11 VDD_PL, U13 VDD_PL, U15 VDD_PL, U17 VDD_PL, U19 VDD_PL, U21 VDD_PL, U23 VDD_PL, U25 VDD_PL, U27 VDD_PL, V12 VDD_PL, V14 VDD_PL, V16 VDD_PL, V18 VDD_PL, V20 VDD_PL, V22 VDD_PL, V24 VDD_PL, V26 VDD_PL, W11 VDD_PL, W13 VDD_PL, W15 VDD_CB, W17 VDD_CB, W19 VDD_CB, W21 VDD_PL, W23 VDD_PL, W25 VDD_PL, W28 VDD_PL, Y12 VDD_PL, Y14 VDD_PL, Y16 VDD_CB, Y18 VDD_CB, Y20 VDD_CB, Y22 VDD_PL, Y24 VDD_PL, Y26 VDD_PL
part A text: DDR SDRAM1
part B text: DDR SDRAM2
part C text: LOCAL BUS CONTROLLER; INTERFACE; DMA; PROG INTERRUPT; CONTROLLER; GENERAL-PURPOSE; INPUT/OUTPUT
part D text: SERDES
part E text: POWER PINS SERDES
part F text: USB1; USB2; eSDHC; eSPI; IEEE 1588; I²C INTERFACE; DUART; DEBUG; CLOCK; PWR MANAGEMENT; I/O VOLTAGE SELECT; JTAG; I/O VOLT.SELECT; SYSTEM; CONTROL; DFT
part G text: ETHERNET
part H text: GND PINS
part I text: POWER PINS
part J text: POWER PINS

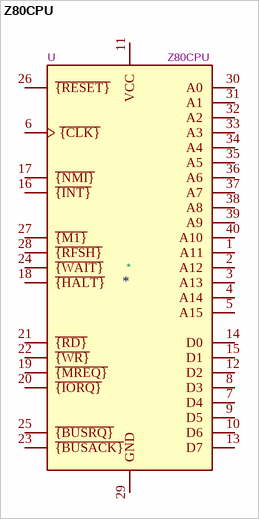
[diagram p4: symbol Z80CPU]

## Z80CPU
designator *  value Z80CPU  Reference: U
ki_keywords: Z80 CPU uP; ki_description: 8-bit General Purpose Microprocessor, DIP-40; ki_fp_filters: DIP* PDIP*; Datasheet: www.zilog.com/manage_directlink.php?filepath=docs/z80/um0080
pins: 1 A11, 2 A12, 3 A13, 4 A14, 5 A15, 6 ~{{CLK}}, 7 D4, 8 D3, 9 D5, 10 D6, 11 VCC, 12 D2, 13 D7, 14 D0, 15 D1, 16 ~{{INT}}, 17 ~{{NMI}}, 18 ~{{HALT}}, 19 ~{{MREQ}}, 20 ~{{IORQ}}, 21 ~{{RD}}, 22 ~{{WR}}, 23 ~{{BUSACK}}, 24 ~{{WAIT}}, 25 ~{{BUSRQ}}, 26 ~{{RESET}}, 27 ~{{M1}}, 28 ~{{RFSH}}, 29 GND, 30 A0, 31 A1, 32 A2, 33 A3, 34 A4, 35 A5, 36 A6, 37 A7, 38 A8, 39 A9, 40 A10